# Altium integrated library RES 1206.IntLib: 8 symbols
Pins are listed as number, name and electrical type; pins without a type are passive.

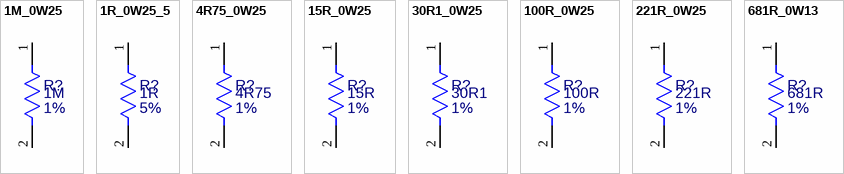
[diagram p0: symbols 1M_0W25 to 681R_0W13]

## 1M_0W25
designator R?, comment value 1M  Tolerance: 1%  (hidden comment: 60215-5806)
Resistor, 1 MEG; Power Rating: 0W25; ECAD_Revision: 1; Librariain: US; PartNumber: 60215-5806; Item: *
footprint R1206
pins: 1, 2

## 1R_0W25_5
designator R?, comment value 1R  Tolerance: 5%  (hidden comment: RXF1R0000/JBR)
Resistor, 1 Ohm, 5%, 0W25; ECAD_Revision: 1; Librariain: UK; PartNumber: RXF1R0000/JBR; Item: *; Power Rating: 0W25
footprint R1206
pins: 1, 2

## 4R75_0W25
designator R?, comment value 4R75  Tolerance: 1%  (hidden comment: 60215-0690)
Resistor, 4.75 Ohms; Power Rating: 0W25; ECAD_Revision: 2; Librariain: US; PartNumber: 60215-0690; Item: *
footprint R1206
pins: 1, 2

## 15R_0W25
designator R?, comment value 15R  Tolerance: 1%  (hidden comment: 60215-1177)
Resistor, 15 Ohms; Power Rating: 0W25; ECAD_Revision: 2; Librariain: US; PartNumber: 60215-1177; Item: *
footprint R1206
pins: 1, 2

## 30R1_0W25
designator R?, comment value 30R1  Tolerance: 1%  (hidden comment: AWT25-500160)
Resistor, 30 .1Ohms; Power Rating: 0W25; ECAD_Revision: 2; Librariain: US; PartNumber: AWT25-500160; Item: *
footprint R1206
pins: 1, 2

## 100R_0W25
designator R?, comment value 100R  Tolerance: 1%  (hidden comment: 60215-1961)
Resistor, 100 Ohms; Power Rating: 0W25; ECAD_Revision: 2; Librariain: US; PartNumber: 60215-1961; Item: *
footprint R1206
pins: 1, 2

## 221R_0W25
designator R?, comment value 221R  Tolerance: 1%  (hidden comment: 60215-2290)
Resistor, 221 Ohms; Power Rating: 0W25; ECAD_Revision: 1; Librariain: US; PartNumber: 60215-2290; Item: *
footprint R1206
pins: 1, 2

## 681R_0W13
designator R?, comment value 681R  Tolerance: 1%  (hidden comment: 27444-2730)
Resistor, 681 Ohms; Power Rating: 0W13; ECAD_Revision: 2; Librariain: US; PartNumber: 27444-2730; Item: *
footprint R1206
pins: 1, 2